# EAGLE library part 87759-06_S (library untitled)
HEADER
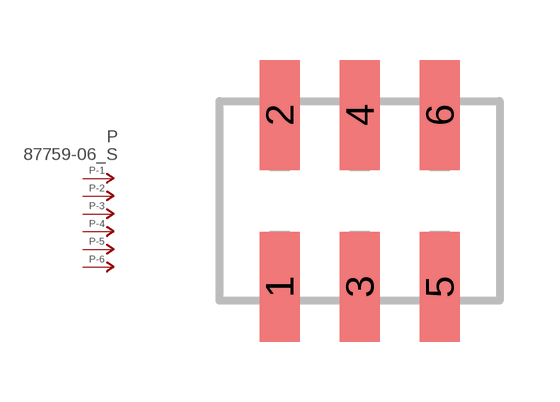
[diagram p358: symbol with the pads of 87759-06; footprint 87759-06]

Designator prefix P; gates -1=P-NV -2=P-N -3=P-N -4=P-N -5=P-N -6=P-N

## 87759-06_S  [87759-06]
1  -1:P  pas
2  -2:P  pas
3  -3:P  pas
4  -4:P  pas
5  -5:P  pas
6  -6:P  pas

## Footprint 87759-06 (pad centres in mm)
HEADER SMD Dual Row, Vertical
smd 1 x 2.75: 1 -2,-2.15; 2 -2,2.15; 3 0,-2.15; 4 0,2.15; 5 2,-2.15; 6 2,2.15